# EAGLE library part EE2-*NUX (library relays)
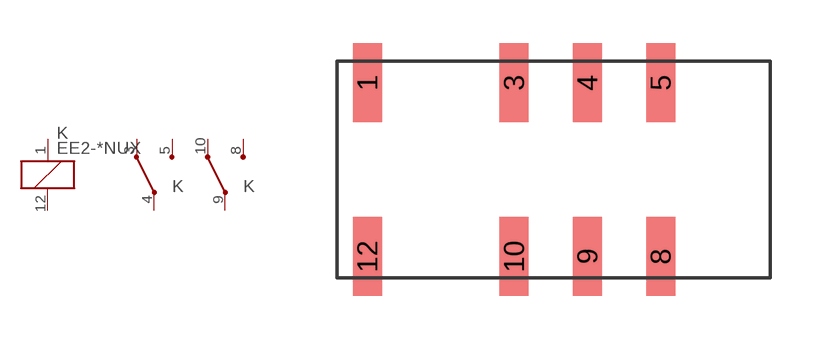
[diagram p0: symbol with the pads of EE2-*NUX; footprint EE2-*NUX]

Designator prefix K; gates G$1=K G$2=U G$3=U

## EE2-NUX  [EE2-*NUX]
1  G$1:1  pas
3  G$2:S  pas
4  G$2:P  pas
5  G$2:O  pas
8  G$3:O  pas
9  G$3:P  pas
10  G$3:S  pas
12  G$1:2  pas

## Footprint EE2-*NUX (pad centres in mm)
smd 1 x 2.73: 1 -6.35,3.01; 3 -1.27,3.01; 4 1.27,3.01; 5 3.81,3.01; 8 3.81,-3.01; 9 1.27,-3.01; 10 -1.27,-3.01; 12 -6.35,-3.01